# Altium footprint library con-sullinselectronics.PCBLIB: 22 footprints (part 2 of 2)
Each footprint in its own frame and in the unit in brackets; x right, y up, seen from the top. Pads: shape width x height; smd on the part's side, far side on the other; paste and mask are expansions set on the pad; w line width, h text height; cw(c..) or ccw(c..) is an arc to the next point about the centre after c.
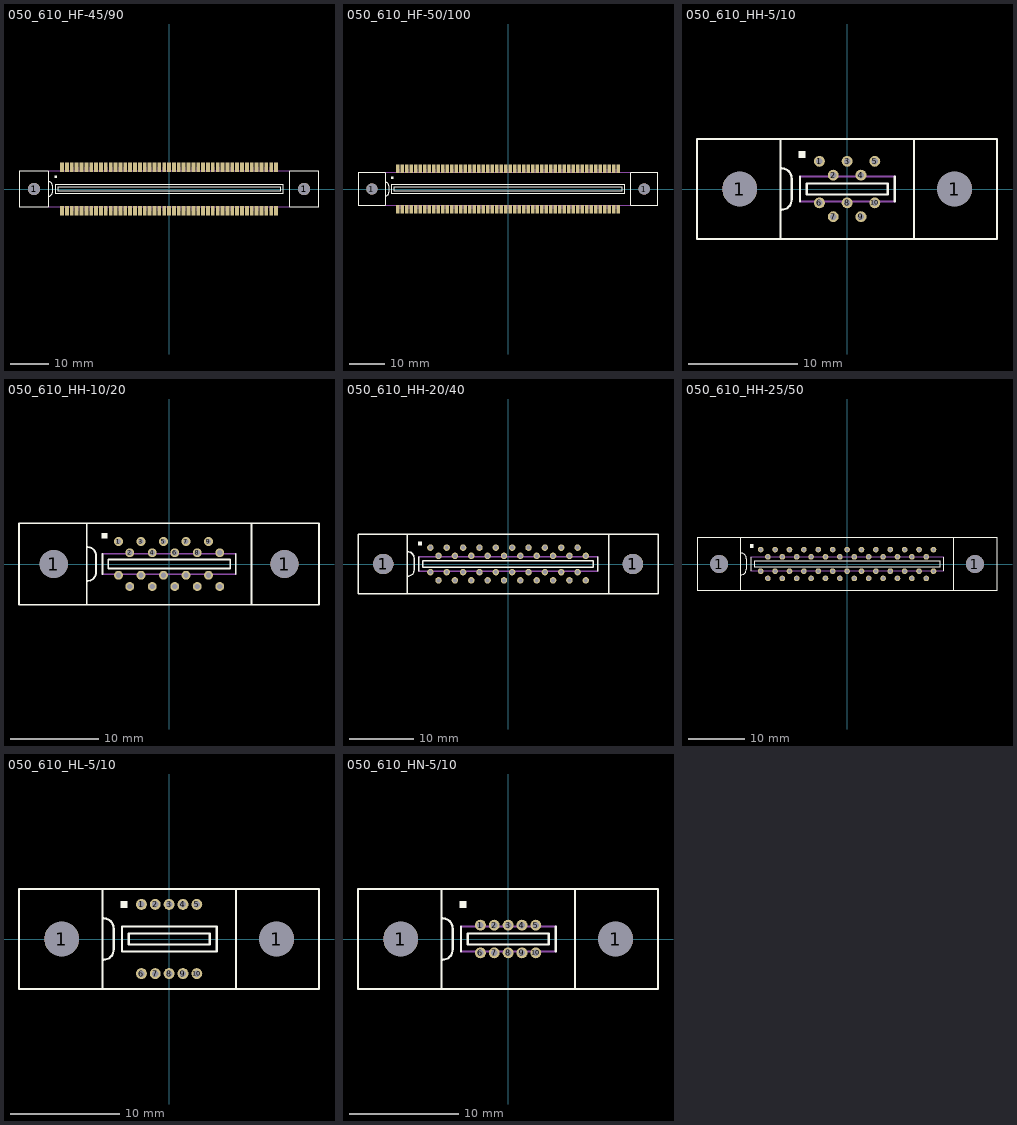
[diagram p1: the footprints below, top view; thin cyan lines are the x and y axes]

## 050_610_HF-45/90 [mm]
pads (92):
  round 3.18 hole 3.18: 1(-35.255,0) 1(35.255,0)
  rect 1x2.5 smd: 1(-27.94,5.715) 2(-26.67,5.715) 3(-25.4,5.715) 4(-24.13,5.715) 5(-22.86,5.715) 6(-21.59,5.715) 7(-20.32,5.715) 8(-19.05,5.715) 9(-17.78,5.715) 10(-16.51,5.715) 11(-15.24,5.715) 12(-13.97,5.715) 13(-12.7,5.715) 14(-11.43,5.715) 15(-10.16,5.715) 16(-8.89,5.715) 17(-7.62,5.715) 18(-6.35,5.715) 19(-5.08,5.715) 20(-3.81,5.715) 21(-2.54,5.715) 22(-1.27,5.715) 23(0,5.715) 24(1.27,5.715) 25(2.54,5.715) 26(3.81,5.715) 27(5.08,5.715) 28(6.35,5.715) 29(7.62,5.715) 30(8.89,5.715) 31(10.16,5.715) 32(11.43,5.715) 33(12.7,5.715) 34(13.97,5.715) 35(15.24,5.715) 36(16.51,5.715) 37(17.78,5.715) 38(19.05,5.715) 39(20.32,5.715) 40(21.59,5.715) 41(22.86,5.715) 42(24.13,5.715) 43(25.4,5.715) 44(26.67,5.715) 45(27.94,5.715) 46(-27.94,-5.715) 47(-26.67,-5.715) 48(-25.4,-5.715) 49(-24.13,-5.715) 50(-22.86,-5.715) 51(-21.59,-5.715) 52(-20.32,-5.715) 53(-19.05,-5.715) 54(-17.78,-5.715) 55(-16.51,-5.715) 56(-15.24,-5.715) 57(-13.97,-5.715) 58(-12.7,-5.715) 59(-11.43,-5.715) 60(-10.16,-5.715) 61(-8.89,-5.715) 62(-7.62,-5.715) 63(-6.35,-5.715) 64(-5.08,-5.715) 65(-3.81,-5.715) 66(-2.54,-5.715) 67(-1.27,-5.715) 68(0,-5.715) 69(1.27,-5.715) 70(2.54,-5.715) 71(3.81,-5.715) 72(5.08,-5.715) 73(6.35,-5.715) 74(7.62,-5.715) 75(8.89,-5.715) 76(10.16,-5.715) 77(11.43,-5.715) 78(12.7,-5.715) 79(13.97,-5.715) 80(15.24,-5.715) 81(16.51,-5.715) 82(17.78,-5.715) 83(19.05,-5.715) 84(20.32,-5.715) 85(21.59,-5.715) 86(22.86,-5.715) 87(24.13,-5.715) 88(25.4,-5.715) 89(26.67,-5.715) 90(27.94,-5.715)
Top Overlay:
  rectangle: -29.845,2.857 -29.21,3.492
  lines w0.203: -31.432,-1.905 ccw(c-31.433,-0.952) -30.48,-0.953 -30.48,0.953 ccw(c-31.432,0.953) -31.432,1.905 ; -39.175,-4.6 -31.525,-4.6 -31.525,4.6 -39.175,4.6 -39.175,-4.6 ; -29.735,-1.15 29.76,-1.15 29.76,1.15 -29.735,1.15 -29.735,-1.15 ; -29.1,-0.515 29.125,-0.515 29.125,0.515 -29.1,0.515 -29.1,-0.515 ; 31.525,-4.6 39.15,-4.6 39.15,4.6 31.525,4.6 31.525,-4.6
Mechanical 16:
  rectangle: -28.375,4.65 -27.5,5.7
  rectangle: -27.105,4.65 -26.23,5.7
  rectangle: -25.835,4.65 -24.96,5.7
  rectangle: -24.565,4.65 -23.69,5.7
  rectangle: -23.295,4.65 -22.42,5.7
  rectangle: -22.025,4.65 -21.15,5.7
  rectangle: -20.755,4.65 -19.88,5.7
  rectangle: -19.485,4.65 -18.61,5.7
  rectangle: -18.215,4.65 -17.34,5.7
  rectangle: -16.945,4.65 -16.07,5.7
  rectangle: -4.245,4.65 -3.37,5.7
  rectangle: -5.515,4.65 -4.64,5.7
  rectangle: -6.785,4.65 -5.91,5.7
  rectangle: -8.055,4.65 -7.18,5.7
  rectangle: -9.325,4.65 -8.45,5.7
  rectangle: -10.595,4.65 -9.72,5.7
  rectangle: -11.865,4.65 -10.99,5.7
  rectangle: -15.675,4.65 -14.8,5.7
  rectangle: -14.405,4.65 -13.53,5.7
  rectangle: -13.135,4.65 -12.26,5.7
  rectangle: 3.375,4.65 4.25,5.7
  rectangle: 2.105,4.65 2.98,5.7
  rectangle: 0.835,4.65 1.71,5.7
  rectangle: -0.435,4.65 0.44,5.7
  rectangle: -1.705,4.65 -0.83,5.7
  rectangle: -2.975,4.65 -2.1,5.7
  rectangle: 5.915,4.65 6.79,5.7
  rectangle: 4.645,4.65 5.52,5.7
  rectangle: 7.185,4.65 8.06,5.7
  rectangle: 8.455,4.65 9.33,5.7
  rectangle: 16.075,4.65 16.95,5.7
  rectangle: 14.805,4.65 15.68,5.7
  rectangle: 13.535,4.65 14.41,5.7
  rectangle: 12.265,4.65 13.14,5.7
  rectangle: 10.995,4.65 11.87,5.7
  rectangle: 9.725,4.65 10.6,5.7
  rectangle: 18.615,4.65 19.49,5.7
  rectangle: 17.345,4.65 18.22,5.7
  rectangle: 19.885,4.65 20.76,5.7
  rectangle: 21.155,4.65 22.03,5.7
  rectangle: 26.235,4.65 27.11,5.7
  rectangle: 24.965,4.65 25.84,5.7
  rectangle: 23.695,4.65 24.57,5.7
  rectangle: 22.425,4.65 23.3,5.7
  rectangle: 27.505,4.65 28.38,5.7
  region: -27.505,-4.65 -28.38,-4.65 -28.38,-5.7 -27.505,-5.7
  region: -26.235,-4.65 -27.11,-4.65 -27.11,-5.7 -26.235,-5.7
  region: -22.425,-4.65 -23.3,-4.65 -23.3,-5.7 -22.425,-5.7
  region: -23.695,-4.65 -24.57,-4.65 -24.57,-5.7 -23.695,-5.7
  region: -24.965,-4.65 -25.84,-4.65 -25.84,-5.7 -24.965,-5.7
  region: -17.345,-4.65 -18.22,-4.65 -18.22,-5.7 -17.345,-5.7
  region: -18.615,-4.65 -19.49,-4.65 -19.49,-5.7 -18.615,-5.7
  region: -19.885,-4.65 -20.76,-4.65 -20.76,-5.7 -19.885,-5.7
  region: -21.155,-4.65 -22.03,-4.65 -22.03,-5.7 -21.155,-5.7
  region: -16.075,-4.65 -16.95,-4.65 -16.95,-5.7 -16.075,-5.7
  region: -14.805,-4.65 -15.68,-4.65 -15.68,-5.7 -14.805,-5.7
  region: -13.535,-4.65 -14.41,-4.65 -14.41,-5.7 -13.535,-5.7
  region: -9.725,-4.65 -10.6,-4.65 -10.6,-5.7 -9.725,-5.7
  region: -10.995,-4.65 -11.87,-4.65 -11.87,-5.7 -10.995,-5.7
  region: -12.265,-4.65 -13.14,-4.65 -13.14,-5.7 -12.265,-5.7
  region: -4.645,-4.65 -5.52,-4.65 -5.52,-5.7 -4.645,-5.7
  region: -5.915,-4.65 -6.79,-4.65 -6.79,-5.7 -5.915,-5.7
  region: -7.185,-4.65 -8.06,-4.65 -8.06,-5.7 -7.185,-5.7
  region: -8.455,-4.65 -9.33,-4.65 -9.33,-5.7 -8.455,-5.7
  region: -3.375,-4.65 -4.25,-4.65 -4.25,-5.7 -3.375,-5.7
  region: -2.105,-4.65 -2.98,-4.65 -2.98,-5.7 -2.105,-5.7
  region: -0.835,-4.65 -1.71,-4.65 -1.71,-5.7 -0.835,-5.7
  region: 0.435,-4.65 -0.44,-4.65 -0.44,-5.7 0.435,-5.7
  region: 1.705,-4.65 0.83,-4.65 0.83,-5.7 1.705,-5.7
  region: 2.975,-4.65 2.1,-4.65 2.1,-5.7 2.975,-5.7
  region: 5.515,-4.65 4.64,-4.65 4.64,-5.7 5.515,-5.7
  region: 4.245,-4.65 3.37,-4.65 3.37,-5.7 4.245,-5.7
  region: 10.595,-4.65 9.72,-4.65 9.72,-5.7 10.595,-5.7
  region: 9.325,-4.65 8.45,-4.65 8.45,-5.7 9.325,-5.7
  region: 8.055,-4.65 7.18,-4.65 7.18,-5.7 8.055,-5.7
  region: 6.785,-4.65 5.91,-4.65 5.91,-5.7 6.785,-5.7
  region: 11.865,-4.65 10.99,-4.65 10.99,-5.7 11.865,-5.7
  region: 13.135,-4.65 12.26,-4.65 12.26,-5.7 13.135,-5.7
  region: 14.405,-4.65 13.53,-4.65 13.53,-5.7 14.405,-5.7
  region: 15.675,-4.65 14.8,-4.65 14.8,-5.7 15.675,-5.7
  region: 16.945,-4.65 16.07,-4.65 16.07,-5.7 16.945,-5.7
  region: 19.485,-4.65 18.61,-4.65 18.61,-5.7 19.485,-5.7
  region: 18.215,-4.65 17.34,-4.65 17.34,-5.7 18.215,-5.7
  region: 24.565,-4.65 23.69,-4.65 23.69,-5.7 24.565,-5.7
  region: 23.295,-4.65 22.42,-4.65 22.42,-5.7 23.295,-5.7
  region: 22.025,-4.65 21.15,-4.65 21.15,-5.7 22.025,-5.7
  region: 20.755,-4.65 19.88,-4.65 19.88,-5.7 20.755,-5.7
  region: 25.835,-4.65 24.96,-4.65 24.96,-5.7 25.835,-5.7
  region: 27.105,-4.65 26.23,-4.65 26.23,-5.7 27.105,-5.7
  region: 28.375,-4.65 27.5,-4.65 27.5,-5.7 28.375,-5.7
  lines w0.203: -31.525,-4.6 31.525,-4.6 ; -31.525,4.6 31.525,4.6

## 050_610_HF-50/100 [mm]
pads (102):
  round 3.18 hole 3.18: 1(-38.43,0) 1(38.43,0)
  rect 1x2.5 smd: 1(-31.115,5.715) 2(-29.845,5.715) 3(-28.575,5.715) 4(-27.305,5.715) 5(-26.035,5.715) 6(-24.765,5.715) 7(-23.495,5.715) 8(-22.225,5.715) 9(-20.955,5.715) 10(-19.685,5.715) 11(-18.415,5.715) 12(-17.145,5.715) 13(-15.875,5.715) 14(-14.605,5.715) 15(-13.335,5.715) 16(-12.065,5.715) 17(-10.795,5.715) 18(-9.525,5.715) 19(-8.255,5.715) 20(-6.985,5.715) 21(-5.715,5.715) 22(-4.445,5.715) 23(-3.175,5.715) 24(-1.905,5.715) 25(-0.635,5.715) 26(0.635,5.715) 27(1.905,5.715) 28(3.175,5.715) 29(4.445,5.715) 30(5.715,5.715) 31(6.985,5.715) 32(8.255,5.715) 33(9.525,5.715) 34(10.795,5.715) 35(12.065,5.715) 36(13.335,5.715) 37(14.605,5.715) 38(15.875,5.715) 39(17.145,5.715) 40(18.415,5.715) 41(19.685,5.715) 42(20.955,5.715) 43(22.225,5.715) 44(23.495,5.715) 45(24.765,5.715) 46(26.035,5.715) 47(27.305,5.715) 48(28.575,5.715) 49(29.845,5.715) 50(31.115,5.715) 51(-31.115,-5.715) 52(-29.845,-5.715) 53(-28.575,-5.715) 54(-27.305,-5.715) 55(-26.035,-5.715) 56(-24.765,-5.715) 57(-23.495,-5.715) 58(-22.225,-5.715) 59(-20.955,-5.715) 60(-19.685,-5.715) 61(-18.415,-5.715) 62(-17.145,-5.715) 63(-15.875,-5.715) 64(-14.605,-5.715) 65(-13.335,-5.715) 66(-12.065,-5.715) 67(-10.795,-5.715) 68(-9.525,-5.715) 69(-8.255,-5.715) 70(-6.985,-5.715) 71(-5.715,-5.715) 72(-4.445,-5.715) 73(-3.175,-5.715) 74(-1.905,-5.715) 75(-0.635,-5.715) 76(0.635,-5.715) 77(1.905,-5.715) 78(3.175,-5.715) 79(4.445,-5.715) 80(5.715,-5.715) 81(6.985,-5.715) 82(8.255,-5.715) 83(9.525,-5.715) 84(10.795,-5.715) 85(12.065,-5.715) 86(13.335,-5.715) 87(14.605,-5.715) 88(15.875,-5.715) 89(17.145,-5.715) 90(18.415,-5.715) 91(19.685,-5.715) 92(20.955,-5.715) 93(22.225,-5.715) 94(23.495,-5.715) 95(24.765,-5.715) 96(26.035,-5.715) 97(27.305,-5.715) 98(28.575,-5.715) 99(29.845,-5.715) 100(31.115,-5.715)
Top Overlay:
  rectangle: -33.02,2.857 -32.385,3.492
  lines w0.203: -34.607,-1.905 ccw(c-34.608,-0.952) -33.655,-0.953 -33.655,0.953 ccw(c-34.608,0.953) -34.608,1.905 ; -42.35,-4.6 -34.7,-4.6 -34.7,4.6 -42.35,4.6 -42.35,-4.6 ; -32.91,-1.15 32.935,-1.15 32.935,1.15 -32.91,1.15 -32.91,-1.15 ; -32.275,-0.515 32.3,-0.515 32.3,0.515 -32.275,0.515 -32.275,-0.515 ; 34.7,-4.6 42.325,-4.6 42.325,4.6 34.7,4.6 34.7,-4.6
Mechanical 16:
  rectangle: -31.55,4.65 -30.675,5.7
  rectangle: -30.28,4.65 -29.405,5.7
  rectangle: -29.01,4.65 -28.135,5.7
  rectangle: -27.74,4.65 -26.865,5.7
  rectangle: -26.47,4.65 -25.595,5.7
  rectangle: -25.2,4.65 -24.325,5.7
  rectangle: -23.93,4.65 -23.055,5.7
  rectangle: -22.66,4.65 -21.785,5.7
  rectangle: -21.39,4.65 -20.515,5.7
  rectangle: -20.12,4.65 -19.245,5.7
  rectangle: -7.42,4.65 -6.545,5.7
  rectangle: -8.69,4.65 -7.815,5.7
  rectangle: -9.96,4.65 -9.085,5.7
  rectangle: -11.23,4.65 -10.355,5.7
  rectangle: -12.5,4.65 -11.625,5.7
  rectangle: -13.77,4.65 -12.895,5.7
  rectangle: -15.04,4.65 -14.165,5.7
  rectangle: -18.85,4.65 -17.975,5.7
  rectangle: -17.58,4.65 -16.705,5.7
  rectangle: -16.31,4.65 -15.435,5.7
  rectangle: 0.2,4.65 1.075,5.7
  rectangle: -1.07,4.65 -0.195,5.7
  rectangle: -2.34,4.65 -1.465,5.7
  rectangle: -3.61,4.65 -2.735,5.7
  rectangle: -4.88,4.65 -4.005,5.7
  rectangle: -6.15,4.65 -5.275,5.7
  rectangle: 2.74,4.65 3.615,5.7
  rectangle: 1.47,4.65 2.345,5.7
  rectangle: 4.01,4.65 4.885,5.7
  rectangle: 5.28,4.65 6.155,5.7
  rectangle: 12.9,4.65 13.775,5.7
  rectangle: 11.63,4.65 12.505,5.7
  rectangle: 10.36,4.65 11.235,5.7
  rectangle: 9.09,4.65 9.965,5.7
  rectangle: 7.82,4.65 8.695,5.7
  rectangle: 6.55,4.65 7.425,5.7
  rectangle: 15.44,4.65 16.315,5.7
  rectangle: 14.17,4.65 15.045,5.7
  rectangle: 16.71,4.65 17.585,5.7
  rectangle: 17.98,4.65 18.855,5.7
  rectangle: 23.06,4.65 23.935,5.7
  rectangle: 21.79,4.65 22.665,5.7
  rectangle: 20.52,4.65 21.395,5.7
  rectangle: 19.25,4.65 20.125,5.7
  rectangle: 24.33,4.65 25.205,5.7
  rectangle: 25.6,4.65 26.475,5.7
  rectangle: 26.87,4.65 27.745,5.7
  rectangle: 30.68,4.65 31.555,5.7
  rectangle: 29.41,4.65 30.285,5.7
  rectangle: 28.14,4.65 29.015,5.7
  region: -26.87,-4.65 -27.745,-4.65 -27.745,-5.7 -26.87,-5.7
  region: -28.14,-4.65 -29.015,-4.65 -29.015,-5.7 -28.14,-5.7
  region: -29.41,-4.65 -30.285,-4.65 -30.285,-5.7 -29.41,-5.7
  region: -30.68,-4.65 -31.555,-4.65 -31.555,-5.7 -30.68,-5.7
  region: -25.6,-4.65 -26.475,-4.65 -26.475,-5.7 -25.6,-5.7
  region: -24.33,-4.65 -25.205,-4.65 -25.205,-5.7 -24.33,-5.7
  region: -23.06,-4.65 -23.935,-4.65 -23.935,-5.7 -23.06,-5.7
  region: -19.25,-4.65 -20.125,-4.65 -20.125,-5.7 -19.25,-5.7
  region: -20.52,-4.65 -21.395,-4.65 -21.395,-5.7 -20.52,-5.7
  region: -21.79,-4.65 -22.665,-4.65 -22.665,-5.7 -21.79,-5.7
  region: -14.17,-4.65 -15.045,-4.65 -15.045,-5.7 -14.17,-5.7
  region: -15.44,-4.65 -16.315,-4.65 -16.315,-5.7 -15.44,-5.7
  region: -16.71,-4.65 -17.585,-4.65 -17.585,-5.7 -16.71,-5.7
  region: -17.98,-4.65 -18.855,-4.65 -18.855,-5.7 -17.98,-5.7
  region: -12.9,-4.65 -13.775,-4.65 -13.775,-5.7 -12.9,-5.7
  region: -11.63,-4.65 -12.505,-4.65 -12.505,-5.7 -11.63,-5.7
  region: -10.36,-4.65 -11.235,-4.65 -11.235,-5.7 -10.36,-5.7
  region: -9.09,-4.65 -9.965,-4.65 -9.965,-5.7 -9.09,-5.7
  region: -7.82,-4.65 -8.695,-4.65 -8.695,-5.7 -7.82,-5.7
  region: -6.55,-4.65 -7.425,-4.65 -7.425,-5.7 -6.55,-5.7
  region: -4.01,-4.65 -4.885,-4.65 -4.885,-5.7 -4.01,-5.7
  region: -5.28,-4.65 -6.155,-4.65 -6.155,-5.7 -5.28,-5.7
  region: 1.07,-4.65 0.195,-4.65 0.195,-5.7 1.07,-5.7
  region: -0.2,-4.65 -1.075,-4.65 -1.075,-5.7 -0.2,-5.7
  region: -1.47,-4.65 -2.345,-4.65 -2.345,-5.7 -1.47,-5.7
  region: -2.74,-4.65 -3.615,-4.65 -3.615,-5.7 -2.74,-5.7
  region: 2.34,-4.65 1.465,-4.65 1.465,-5.7 2.34,-5.7
  region: 3.61,-4.65 2.735,-4.65 2.735,-5.7 3.61,-5.7
  region: 4.88,-4.65 4.005,-4.65 4.005,-5.7 4.88,-5.7
  region: 6.15,-4.65 5.275,-4.65 5.275,-5.7 6.15,-5.7
  region: 7.42,-4.65 6.545,-4.65 6.545,-5.7 7.42,-5.7
  region: 9.96,-4.65 9.085,-4.65 9.085,-5.7 9.96,-5.7
  region: 8.69,-4.65 7.815,-4.65 7.815,-5.7 8.69,-5.7
  region: 15.04,-4.65 14.165,-4.65 14.165,-5.7 15.04,-5.7
  region: 13.77,-4.65 12.895,-4.65 12.895,-5.7 13.77,-5.7
  region: 12.5,-4.65 11.625,-4.65 11.625,-5.7 12.5,-5.7
  region: 11.23,-4.65 10.355,-4.65 10.355,-5.7 11.23,-5.7
  region: 16.31,-4.65 15.435,-4.65 15.435,-5.7 16.31,-5.7
  region: 17.58,-4.65 16.705,-4.65 16.705,-5.7 17.58,-5.7
  region: 18.85,-4.65 17.975,-4.65 17.975,-5.7 18.85,-5.7
  region: 20.12,-4.65 19.245,-4.65 19.245,-5.7 20.12,-5.7
  region: 22.66,-4.65 21.785,-4.65 21.785,-5.7 22.66,-5.7
  region: 21.39,-4.65 20.515,-4.65 20.515,-5.7 21.39,-5.7
  region: 27.74,-4.65 26.865,-4.65 26.865,-5.7 27.74,-5.7
  region: 26.47,-4.65 25.595,-4.65 25.595,-5.7 26.47,-5.7
  region: 25.2,-4.65 24.325,-4.65 24.325,-5.7 25.2,-5.7
  region: 23.93,-4.65 23.055,-4.65 23.055,-5.7 23.93,-5.7
  region: 29.01,-4.65 28.135,-4.65 28.135,-5.7 29.01,-5.7
  region: 30.28,-4.65 29.405,-4.65 29.405,-5.7 30.28,-5.7
  region: 31.55,-4.65 30.675,-4.65 30.675,-5.7 31.55,-5.7
  lines w0.203: -34.7,-4.6 34.7,-4.6 ; -34.7,4.6 34.7,4.6

## 050_610_HH-5/10 [mm]
pads (12):
  round 3.18 hole 3.18: 1(-9.855,0) 1(9.855,0)
  round 1 hole 0.6: 1(-2.54,2.54) 2(-1.27,1.27) 3(0,2.54) 4(1.27,1.27) 5(2.54,2.54) 6(-2.54,-1.27) 7(-1.27,-2.54) 8(0,-1.27) 9(1.27,-2.54) 10(2.54,-1.27)
Top Overlay:
  rectangle: -4.445,2.857 -3.81,3.492
  lines w0.203: -6.125,-4.55 -6.125,4.55 ; -6.032,-1.905 ccw(c-6.033,-0.952) -5.08,-0.953 -5.08,0.953 ccw(c-6.032,0.953) -6.032,1.905 ; -4.335,-1.15 -4.335,1.15 ; 4.36,-1.15 4.36,1.15 ; 6.125,-4.55 6.125,4.55 ; -13.775,-4.6 13.75,-4.6 13.75,4.6 -13.775,4.6 -13.775,-4.6 ; -3.7,-0.515 3.725,-0.515 3.725,0.515 -3.7,0.515 -3.7,-0.515
Mechanical 16:
  lines w0.203: -4.335,-1.15 4.36,-1.15 ; -4.335,1.15 4.36,1.15

## 050_610_HH-10/20 [mm]
pads (22):
  round 3.18 hole 3.18: 1(-13.03,0) 1(13.03,0)
  round 1 hole 0.6: 1(-5.715,2.54) 2(-4.445,1.27) 3(-3.175,2.54) 4(-1.905,1.27) 5(-0.635,2.54) 6(0.635,1.27) 7(1.905,2.54) 8(3.175,1.27) 9(4.445,2.54) 10(5.715,1.27) 11(-5.715,-1.27) 12(-4.445,-2.54) 13(-3.175,-1.27) 14(-1.905,-2.54) 15(-0.635,-1.27) 16(0.635,-2.54) 17(1.905,-1.27) 18(3.175,-2.54) 19(4.445,-1.27) 20(5.715,-2.54)
Top Overlay:
  rectangle: -7.62,2.857 -6.985,3.492
  lines w0.203: -9.3,-4.55 -9.3,4.55 ; -9.207,-1.905 ccw(c-9.208,-0.952) -8.255,-0.953 -8.255,0.953 ccw(c-9.207,0.953) -9.207,1.905 ; -7.51,-1.15 -7.51,1.15 ; 7.535,-1.15 7.535,1.15 ; 9.3,-4.55 9.3,4.55 ; -16.95,-4.6 16.925,-4.6 16.925,4.6 -16.95,4.6 -16.95,-4.6 ; -6.875,-0.515 6.9,-0.515 6.9,0.515 -6.875,0.515 -6.875,-0.515
Mechanical 16:
  lines w0.203: -7.51,-1.15 7.535,-1.15 ; -7.51,1.15 7.535,1.15

## 050_610_HH-20/40 [mm]
pads (42):
  round 3.18 hole 3.18: 1(-19.38,0) 1(19.38,0)
  round 1 hole 0.6: 1(-12.065,2.54) 2(-10.795,1.27) 3(-9.525,2.54) 4(-8.255,1.27) 5(-6.985,2.54) 6(-5.715,1.27) 7(-4.445,2.54) 8(-3.175,1.27) 9(-1.905,2.54) 10(-0.635,1.27) 11(0.635,2.54) 12(1.905,1.27) 13(3.175,2.54) 14(4.445,1.27) 15(5.715,2.54) 16(6.985,1.27) 17(8.255,2.54) 18(9.525,1.27) 19(10.795,2.54) 20(12.065,1.27) 21(-12.065,-1.27) 22(-10.795,-2.54) 23(-9.525,-1.27) 24(-8.255,-2.54) 25(-6.985,-1.27) 26(-5.715,-2.54) 27(-4.445,-1.27) 28(-3.175,-2.54) 29(-1.905,-1.27) 30(-0.635,-2.54) 31(0.635,-1.27) 32(1.905,-2.54) 33(3.175,-1.27) 34(4.445,-2.54) 35(5.715,-1.27) 36(6.985,-2.54) 37(8.255,-1.27) 38(9.525,-2.54) 39(10.795,-1.27) 40(12.065,-2.54)
Top Overlay:
  rectangle: -13.97,2.857 -13.335,3.492
  lines w0.203: -15.65,-4.55 -15.65,4.55 ; -15.557,-1.905 ccw(c-15.558,-0.952) -14.605,-0.953 -14.605,0.953 ccw(c-15.557,0.953) -15.557,1.905 ; -13.86,-1.15 -13.86,1.15 ; 13.885,-1.15 13.885,1.15 ; 15.65,-4.55 15.65,4.55 ; -23.3,-4.6 23.275,-4.6 23.275,4.6 -23.3,4.6 -23.3,-4.6 ; -13.225,-0.515 13.25,-0.515 13.25,0.515 -13.225,0.515 -13.225,-0.515
Mechanical 16:
  lines w0.203: -13.86,-1.15 13.885,-1.15 ; -13.86,1.15 13.885,1.15

## 050_610_HH-25/50 [mm]
pads (52):
  round 3.18 hole 3.18: 1(-22.555,0) 1(22.555,0)
  round 1 hole 0.6: 1(-15.24,2.54) 2(-13.97,1.27) 3(-12.7,2.54) 4(-11.43,1.27) 5(-10.16,2.54) 6(-8.89,1.27) 7(-7.62,2.54) 8(-6.35,1.27) 9(-5.08,2.54) 10(-3.81,1.27) 11(-2.54,2.54) 12(-1.27,1.27) 13(0,2.54) 14(1.27,1.27) 15(2.54,2.54) 16(3.81,1.27) 17(5.08,2.54) 18(6.35,1.27) 19(7.62,2.54) 20(8.89,1.27) 21(10.16,2.54) 22(11.43,1.27) 23(12.7,2.54) 24(13.97,1.27) 25(15.24,2.54) 26(-15.24,-1.27) 27(-13.97,-2.54) 28(-12.7,-1.27) 29(-11.43,-2.54) 30(-10.16,-1.27) 31(-8.89,-2.54) 32(-7.62,-1.27) 33(-6.35,-2.54) 34(-5.08,-1.27) 35(-3.81,-2.54) 36(-2.54,-1.27) 37(-1.27,-2.54) 38(0,-1.27) 39(1.27,-2.54) 40(2.54,-1.27) 41(3.81,-2.54) 42(5.08,-1.27) 43(6.35,-2.54) 44(7.62,-1.27) 45(8.89,-2.54) 46(10.16,-1.27) 47(11.43,-2.54) 48(12.7,-1.27) 49(13.97,-2.54) 50(15.24,-1.27)
Top Overlay:
  rectangle: -17.145,2.857 -16.51,3.492
  lines w0.203: -18.825,-4.55 -18.825,4.55 ; -18.732,-1.905 ccw(c-18.733,-0.952) -17.78,-0.953 -17.78,0.953 ccw(c-18.732,0.953) -18.732,1.905 ; -17.035,-1.15 -17.035,1.15 ; 17.06,-1.15 17.06,1.15 ; 18.825,-4.55 18.825,4.55 ; -26.475,-4.6 26.45,-4.6 26.45,4.6 -26.475,4.6 -26.475,-4.6 ; -16.4,-0.515 16.425,-0.515 16.425,0.515 -16.4,0.515 -16.4,-0.515
Mechanical 16:
  lines w0.203: -17.035,-1.15 17.06,-1.15 ; -17.035,1.15 17.06,1.15

## 050_610_HL-5/10 [mm]
pads (12):
  round 3.18 hole 3.18: 1(-9.855,0) 1(9.855,0)
  round 1 hole 0.6: 1(-2.54,3.175) 2(-1.27,3.175) 3(0,3.175) 4(1.27,3.175) 5(2.54,3.175) 6(-2.54,-3.175) 7(-1.27,-3.175) 8(0,-3.175) 9(1.27,-3.175) 10(2.54,-3.175)
Top Overlay:
  rectangle: -4.445,2.857 -3.81,3.492
  lines w0.203: -6.125,-4.55 -6.125,4.55 ; -6.032,-1.905 ccw(c-6.033,-0.952) -5.08,-0.953 -5.08,0.953 ccw(c-6.032,0.953) -6.032,1.905 ; 6.125,-4.55 6.125,4.55 ; -13.775,-4.6 13.75,-4.6 13.75,4.6 -13.775,4.6 -13.775,-4.6 ; -4.335,-1.15 4.36,-1.15 4.36,1.15 -4.335,1.15 -4.335,-1.15 ; -3.7,-0.515 3.725,-0.515 3.725,0.515 -3.7,0.515 -3.7,-0.515

## 050_610_HN-5/10 [mm]
pads (12):
  round 3.18 hole 3.18: 1(-9.855,0) 1(9.855,0)
  round 1 hole 0.6: 1(-2.54,1.27) 2(-1.27,1.27) 3(0,1.27) 4(1.27,1.27) 5(2.54,1.27) 6(-2.54,-1.27) 7(-1.27,-1.27) 8(0,-1.27) 9(1.27,-1.27) 10(2.54,-1.27)
Top Overlay:
  rectangle: -4.445,2.857 -3.81,3.492
  lines w0.203: -6.125,-4.55 -6.125,4.55 ; -6.032,-1.905 ccw(c-6.033,-0.952) -5.08,-0.953 -5.08,0.953 ccw(c-6.032,0.953) -6.032,1.905 ; -4.335,-1.15 -4.335,1.15 ; 4.36,-1.15 4.36,1.15 ; 6.125,-4.55 6.125,4.55 ; -13.775,-4.6 13.75,-4.6 13.75,4.6 -13.775,4.6 -13.775,-4.6 ; -3.7,-0.515 3.725,-0.515 3.725,0.515 -3.7,0.515 -3.7,-0.515
Mechanical 16:
  lines w0.203: -4.335,-1.15 4.36,-1.15 ; -4.335,1.15 4.36,1.15